# EAGLE library part TCA9535 (library we-chip)
TI TCA9535 I2C 16-Bit I/O Expander
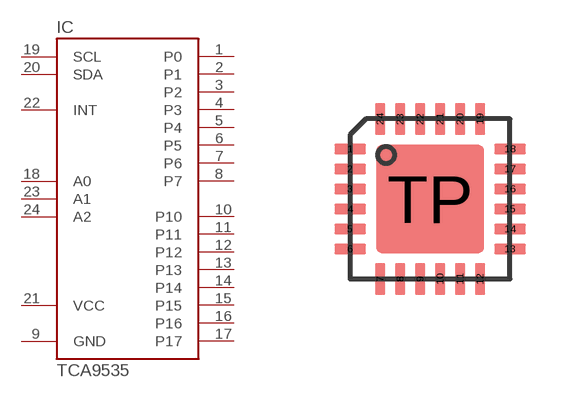
[diagram p15: symbol with the pads of QFN24-PAD; footprint QFN24-PAD]

Designator prefix IC

## TCA9535RTWR  [QFN24-PAD]
1  P0
2  P1
3  P2
4  P3
5  P4
6  P5
7  P6
8  P7
9  GND  pwr
10  P10
11  P11
12  P12
13  P13
14  P14
15  P15
16  P16
17  P17
18  A0
19  SCL
20  SDA
21  VCC  pwr
22  INT
23  A1
24  A2

## Footprint QFN24-PAD (pad centres in mm)
smd 0.8 x 0.26: 1 -2,1.25; 2 -2,0.75; 3 -2,0.25; 4 -2,-0.25; 5 -2,-0.75; 6 -2,-1.25; 13 2,-1.25; 14 2,-0.75; 15 2,-0.25; 16 2,0.25; 17 2,0.75; 18 2,1.25
smd 0.26 x 0.8: 7 -1.25,-2; 8 -0.75,-2; 9 -0.25,-2; 10 0.25,-2; 11 0.75,-2; 12 1.25,-2; 19 1.25,2; 20 0.75,2; 21 0.25,2; 22 -0.25,2; 23 -0.75,2; 24 -1.25,2
smd 2.7 x 2.7: TP 0,0